# EAGLE library part MBC13720 (library GW-devices)
LNA w/ SD and BIAS
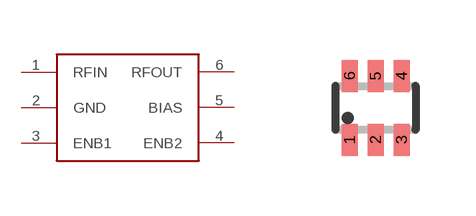
[diagram p11: symbol with the pads of SOT363; footprint SOT363]

Designator prefix -

## MBC13720  [SOT363]
1  RFIN
2  GND
3  ENB1
4  ENB2
5  BIAS
6  RFOUT

## Footprint SOT363 (pad centres in mm)
Small Outline Transistor; 6 leads Philips Semiconductors, SOT363.pdf
smd 0.4 x 0.8: 1 -0.65,-0.8; 2 0,-0.8; 3 0.65,-0.8; 4 0.65,0.8; 5 0,0.8; 6 -0.65,0.8